# EAGLE library part P-14- (library con-headers-jp)
HEADER PLUG PINS
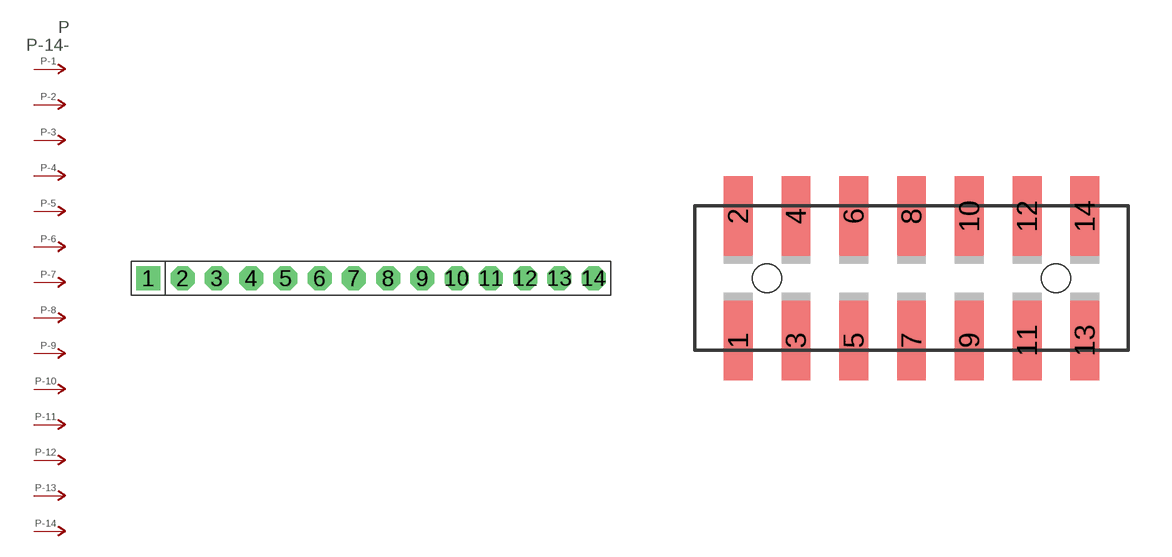
[diagram p14: symbol with the pads of SIP-100-14-40; footprints SIP-100-14-40, 87759-14]

Designator prefix P; gates -2=P-N -3=P-N -4=P-N -5=P-N -6=P-N -7=P-N -8=P-N -9=P-N -10=P-N -11=P-N -12=P-N -13=P-N -14=P-N -1=P-NV

## P-14-SIP-100-40  [SIP-100-14-40]
1  -1:P  pas
2  -2:P  pas
3  -3:P  pas
4  -4:P  pas
5  -5:P  pas
6  -6:P  pas
7  -7:P  pas
8  -8:P  pas
9  -9:P  pas
10  -10:P  pas
11  -11:P  pas
12  -12:P  pas
13  -13:P  pas
14  -14:P  pas

## P-14-87759  [87759-14]
Pads as for SIP-100-14-40

## P-14-100-2X07  [DIL-100-2X07]
Pads as for SIP-100-14-40

## P-14-100-2X07_M  [DIL-100-2X07_M]
Pads as for SIP-100-14-40

## P-14-2MM-2X07  [DIL-2MM-2X07]
Pads as for SIP-100-14-40

## P-14-2MM-2X07_M  [DIL-2MM-2X07_M]
Pads as for SIP-100-14-40

## P-14-SIP-100-32  [SIP-100-14-32]
Pads as for SIP-100-14-40

## P-14-SIP-100-40Y  [SIP-100-14-40Y]
Pads as for SIP-100-14-40

## P-14-SIP-100-32Y  [SIP-100-14-32Y]
Pads as for SIP-100-14-40

## P-14-87759_M  [87759-14_M]
Pads as for SIP-100-14-40

## P-14-LCW-114-XX-X-S  [LCW-114-XX-X-S]
Pads as for SIP-100-14-40

## P-14-LCW-114-XX-X-S-RE  [LCW-114-XX-X-S-RE]
Pads as for SIP-100-14-40

## Footprint SIP-100-14-40 (pad centres in mm)
SIP Header - 0.1", 40 mil drill
drill 1.016 pad 1.778 square: 1 -16.51,0
drill 1.016 pad 1.778 octagon: 2 -13.97,0; 3 -11.43,0; 4 -8.89,0; 5 -6.35,0; 6 -3.81,0; 7 -1.27,0; 8 1.27,0; 9 3.81,0; 10 6.35,0; 11 8.89,0; 12 11.43,0; 13 13.97,0; 14 16.51,0

## Footprint 87759-14 (pad centres in mm)
Molex PCB Pin Headers 2.00mm (.079") Pitch Milli-Grid Header, Vertical SMD
smd 1 x 2.75: 1 -6,-2.15; 2 -6,2.15; 3 -4,-2.15; 4 -4,2.15; 5 -2,-2.15; 6 -2,2.15; 7 0,-2.15; 8 0,2.15; 9 2,-2.15; 10 2,2.15; 11 4,-2.15; 12 4,2.15; 13 6,-2.15; 14 6,2.15
hole 1 at -5,0
hole 1 at 5,0

## Footprint DIL-100-2X07 (pad centres in mm)
PIN HEADER - 0.1"
drill 1.016 square: 1 -7.62,-1.27
drill 1.016 octagon: 2 -7.62,1.27; 3 -5.08,-1.27; 4 -5.08,1.27; 5 -2.54,-1.27; 6 -2.54,1.27; 7 0,-1.27; 8 0,1.27; 9 2.54,-1.27; 10 2.54,1.27; 11 5.08,-1.27; 12 5.08,1.27; 13 7.62,-1.27; 14 7.62,1.27

## Footprint DIL-100-2X07_M (pad centres in mm)
PIN HEADER - MIRRORED 0.1"
drill 1.016 square: 1 -7.62,1.27
drill 1.016 octagon: 2 -7.62,-1.27; 3 -5.08,1.27; 4 -5.08,-1.27; 5 -2.54,1.27; 6 -2.54,-1.27; 7 0,1.27; 8 0,-1.27; 9 2.54,1.27; 10 2.54,-1.27; 11 5.08,1.27; 12 5.08,-1.27; 13 7.62,1.27; 14 7.62,-1.27

## Footprint DIL-2MM-2X07 (pad centres in mm)
PIN HEADER - 2MM"
drill 0.711 square: 1 -6,-1
drill 0.711: 2 -6,1; 3 -4,-1; 4 -4,1; 5 -2,-1; 6 -2,1; 7 0,-1; 8 0,1; 9 2,-1; 10 2,1; 11 4,-1; 12 4,1; 13 6,-1; 14 6,1

## Footprint DIL-2MM-2X07_M (pad centres in mm)
PIN HEADER - MIRRORED 2MM
drill 0.711 square: 1 -6,1
drill 0.711: 2 -6,-1; 3 -4,1; 4 -4,-1; 5 -2,1; 6 -2,-1; 7 0,1; 8 0,-1; 9 2,1; 10 2,-1; 11 4,1; 12 4,-1; 13 6,1; 14 6,-1

## Footprint SIP-100-14-32 (pad centres in mm)
SIP Header - 0.1", 32 mil drill
drill 0.813 pad 1.778 square: 1 -16.51,0
drill 0.813 pad 1.778 octagon: 2 -13.97,0; 3 -11.43,0; 4 -8.89,0; 5 -6.35,0; 6 -3.81,0; 7 -1.27,0; 8 1.27,0; 9 3.81,0; 10 6.35,0; 11 8.89,0; 12 11.43,0; 13 13.97,0; 14 16.51,0

## Footprint SIP-100-14-40Y (pad centres in mm)
SIP Header - 0.1", 40 mil drill
drill 1.016 long: 1 -16.51,0; 2 -13.97,0; 3 -11.43,0; 4 -8.89,0; 5 -6.35,0; 6 -3.81,0; 7 -1.27,0; 8 1.27,0; 9 3.81,0; 10 6.35,0; 11 8.89,0; 12 11.43,0; 13 13.97,0; 14 16.51,0

## Footprint SIP-100-14-32Y (pad centres in mm)
SIP Header - 0.1", 32 mil drill
drill 0.813 long: 1 -16.51,0; 2 -13.97,0; 3 -11.43,0; 4 -8.89,0; 5 -6.35,0; 6 -3.81,0; 7 -1.27,0; 8 1.27,0; 9 3.81,0; 10 6.35,0; 11 8.89,0; 12 11.43,0; 13 13.97,0; 14 16.51,0

## Footprint 87759-14_M (pad centres in mm)
Molex PCB Pin Headers - MIRRORED PADS 2.00mm (.079") Pitch Milli-Grid Header, Vertical SMD
smd 1 x 2.75: 1 -6,2.15; 2 -6,-2.15; 3 -4,2.15; 4 -4,-2.15; 5 -2,2.15; 6 -2,-2.15; 7 0,2.15; 8 0,-2.15; 9 2,2.15; 10 2,-2.15; 11 4,2.15; 12 4,-2.15; 13 6,2.15; 14 6,-2.15
hole 1 at -5,0
hole 1 at 5,0

## Footprint LCW-114-XX-X-S (pad centres in mm)
Samtec LCW Series friction lock strips, 0.025" square pins
drill 0.813 long: 1 16.51,0; 2 13.97,0; 3 11.43,0; 4 8.89,0; 5 6.35,0; 6 3.81,0; 7 1.27,0; 8 -1.27,0; 9 -3.81,0; 10 -6.35,0; 11 -8.89,0; 12 -11.43,0; 13 -13.97,0; 14 -16.51,0

## Footprint LCW-114-XX-X-S-RE (pad centres in mm)
Samtec LCW Series right angle, friction lock strips, 0.025" square pins
drill 0.813 long: 1 16.51,0; 2 13.97,0; 3 11.43,0; 4 8.89,0; 5 6.35,0; 6 3.81,0; 7 1.27,0; 8 -1.27,0; 9 -3.81,0; 10 -6.35,0; 11 -8.89,0; 12 -11.43,0; 13 -13.97,0; 14 -16.51,0